# Altium schematic symbol library SCH - POWER - SWITCHMODE - TI TPS54295RSA.SchLib: 1 symbol
Pins are listed as number, name and electrical type; pins without a type are passive.

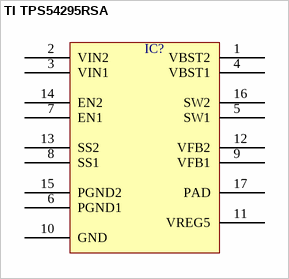
[diagram p0: symbol TI TPS54295RSA]

## TI TPS54295RSA
designator IC?  (value not drawn)
pins: 1 VBST2, 2 VIN2, 3 VIN1, 4 VBST1, 5 SW1, 6 PGND1, 7 EN1, 8 SS1, 9 VFB1, 10 GND, 11 VREG5, 12 VFB2, 13 SS2, 14 EN2, 15 PGND2, 16 SW2, 17 PAD